# Altium schematic symbol library MAX22530AWE+.SchLib: 1 symbol
Pins are listed as number, name and electrical type; pins without a type are passive.

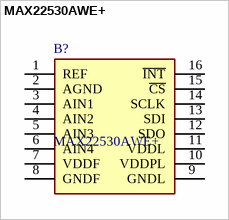
[diagram p0: symbol MAX22530AWE+]

## MAX22530AWE+
designator B?
Field-Side Self-Powered, 4-Channel, 12-bit, Isolated ADC; Manufacturer_Name: Analog Devices; Geometry.Height: 2.65mm; Mouser Part Number: 700-MAX22530AWE+; Mouser Price/Stock: https://www.mouser.co.uk/ProductDetail/Analog-Devices-Maxim-Integrated/MAX22530AWE%2b?qs=DRkmTr78QASxug5yEXUKBg%3D%3D; Manufacturer_Part_Number: MAX22530AWE+; Datasheet Link: https://www.analog.com/MAX22530/datasheet
footprint SOIC127P1032X265-16N
pins: 1 REF, 2 AGND, 3 AIN1, 4 AIN2, 5 AIN3, 6 AIN4, 7 VDDF, 8 GNDF, 9 GNDL, 10 VDDPL, 11 VDDL, 12 SDO, 13 SDI, 14 SCLK, 15 ~{CS}, 16 ~{INT}